# Altium footprint library user_components_lib.PcbLib: 52 footprints (part 3 of 4)
Each footprint in its own frame and in the unit in brackets; x right, y up, seen from the top. Pads: shape width x height; smd on the part's side, far side on the other; paste and mask are expansions set on the pad; w line width, h text height; cw(c..) or ccw(c..) is an arc to the next point about the centre after c.
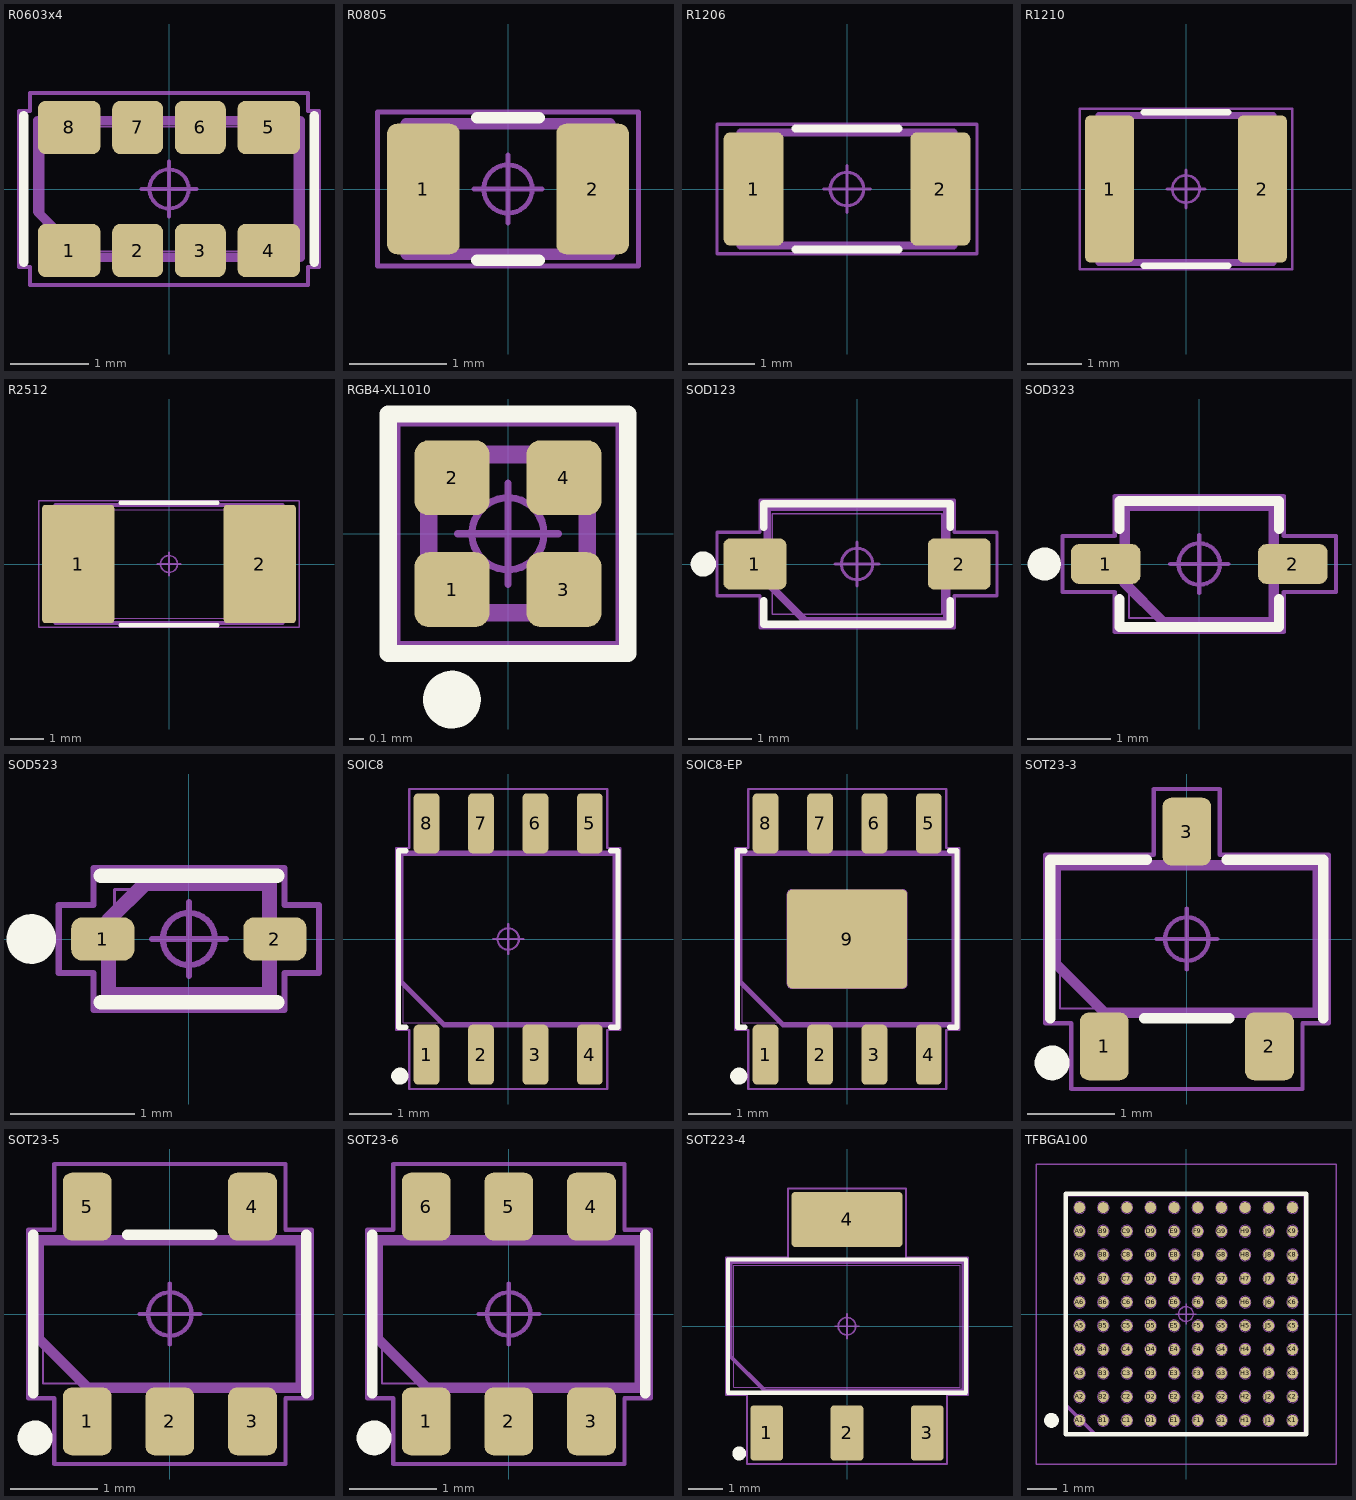
[diagram p2: the footprints below, top view; thin cyan lines are the x and y axes]

## R0603x4 [mm] "Resistor, Chip Array, 2-Sided Convex, 0.80 mm pitch; 8 pin, 3.20 mm L X 1.60 mm W X 0.60 mm H body"
height 0.6
pads (8):
  rrect29% 0.8x0.68 smd: 1(-1.275,-0.786) 4(1.275,-0.786) 5(1.275,0.786) 8(-1.275,0.786)
  rrect31% 0.65x0.68 smd: 2(-0.4,-0.786) 3(0.4,-0.786) 6(0.4,0.786) 7(-0.4,0.786)
Top Overlay:
  lines w0.12: -1.855,-0.935 -1.855,0.935 ; 1.855,-0.935 1.855,0.935
Mechanical 9:
  lines w0.12: -1.675,-0.292 -1.092,-0.875 1.675,-0.875 1.675,0.875 -1.675,0.875 -1.675,-0.292
  text ".Designator" at -2.859,-0.287 h1.27
Mechanical 11:
  text ".Designator" at -2.252,-0.226 h1
Mechanical 15:
  lines w0.05: -1.915,-0.995 -1.915,0.995 -1.775,0.995 -1.775,1.226 1.775,1.226 1.775,0.995 1.915,0.995 1.915,-0.995 1.775,-0.995 1.775,-1.226 -1.775,-1.226 -1.775,-0.995 -1.915,-0.995
Mechanical 17:
  circle w0.05: c0,0 r0.25
  lines w0.05: -0.35,0 0.35,0 ; 0,-0.35 0,0.35
Mechanical 21:
  lines w0.025: -1.6,-0.8 -0.95,-0.8 -0.95,-0.55 -1.6,-0.55 -1.6,-0.8 ; -1.6,-0.8 -1.6,0.8 ; -1.6,-0.8 1.6,-0.8 ; -1.6,0.8 -1.6,0.55 -0.95,0.55 -0.95,0.8 -1.6,0.8 ; -1.6,0.8 1.6,0.8 ; 1.6,-0.8 1.6,-0.55 0.95,-0.55 0.95,-0.8 1.6,-0.8 ; 1.6,-0.8 1.6,0.8 ; 1.6,0.8 0.95,0.8 0.95,0.55 1.6,0.55 1.6,0.8 ; -0.65,-0.8 -0.15,-0.8 -0.15,-0.55 -0.65,-0.55 -0.65,-0.8 ; -0.65,0.55 -0.15,0.55 -0.15,0.8 -0.65,0.8 -0.65,0.55 ; 0.15,-0.8 0.65,-0.8 0.65,-0.55 0.15,-0.55 0.15,-0.8 ; 0.15,0.55 0.65,0.55 0.65,0.8 0.15,0.8 0.15,0.55
3D body "R0603x4.STEP": height 0.6, standoff 0, extent -1.6,-0.85 1.6,0.85

## R0805 [mm]
height 0.6
pads (2):
  rrect27% 0.75x1.35 smd: 1(-0.875,0) 2(0.875,0)
Top Overlay:
  lines w0.12: -0.32,-0.735 0.32,-0.735 ; -0.32,0.735 0.32,0.735
Mechanical 9:
  lines w0.12: -1.05,-0.675 -1.05,0.675 1.05,0.675 1.05,-0.675 -1.05,-0.675
  text ".Designator" at -1.961,-0.197 h0.87
Mechanical 11:
  text ".Designator" at -2.252,-0.226 h1
Mechanical 15:
  lines w0.05: -1.35,-0.795 -1.35,0.795 1.35,0.795 1.35,-0.795 -1.35,-0.795
Mechanical 17:
  circle w0.05: c0,0 r0.25
  lines w0.05: -0.35,0 0.35,0 ; 0,-0.35 0,0.35
Mechanical 21:
  lines w0.025: -1,-0.625 -0.65,-0.625 -0.65,0.625 -1,0.625 ; -1,-0.625 -1,0.625 ; -1,-0.625 -1,0.625 ; -1,-0.625 1,-0.625 ; -1,0.625 1,0.625 ; 1,-0.625 1,0.625 ; 1,-0.625 0.65,-0.625 0.65,0.625 1,0.625 ; 1,-0.625 1,0.625
3D body "R0805.STEP": height 0.6, standoff 0, extent -1,-0.625 1,0.625

## R1206 [mm]
height 0.65
pads (2):
  rrect22% 0.9x1.7 smd: 1(-1.4,0) 2(1.4,0)
Top Overlay:
  lines w0.12: -0.77,-0.91 0.77,-0.91 ; -0.77,0.91 0.77,0.91
Mechanical 9:
  lines w0.12: -1.6,-0.85 -1.6,0.85 1.6,0.85 1.6,-0.85 -1.6,-0.85
  text ".Designator" at -2.747,-0.276 h1.22
Mechanical 11:
  text ".Designator" at -2.252,-0.226 h1
Mechanical 15:
  lines w0.05: -1.95,-0.97 -1.95,0.97 1.95,0.97 1.95,-0.97 -1.95,-0.97
Mechanical 17:
  circle w0.05: c0,0 r0.25
  lines w0.05: -0.35,0 0.35,0 ; 0,-0.35 0,0.35
Mechanical 21:
  lines w0.025: -1.55,-0.8 -1.1,-0.8 -1.1,0.8 -1.55,0.8 ; -1.55,-0.8 -1.55,0.8 ; -1.55,-0.8 -1.55,0.8 ; -1.55,-0.8 1.55,-0.8 ; -1.55,0.8 1.55,0.8 ; 1.55,-0.8 1.55,0.8 ; 1.55,-0.8 1.1,-0.8 1.1,0.8 1.55,0.8 ; 1.55,-0.8 1.55,0.8
3D body "R1206.STEP": height 0.65, standoff 0, extent -1.55,-0.8 1.55,0.8

## R1210 [mm]
height 0.65
pads (2):
  rrect22% 0.9x2.7 smd: 1(-1.4,0) 2(1.4,0)
Top Overlay:
  lines w0.12: -0.77,-1.41 0.77,-1.41 ; -0.77,1.41 0.77,1.41
Mechanical 9:
  lines w0.12: -1.6,-1.35 1.6,-1.35 1.6,1.35 -1.6,1.35 -1.6,-1.35
  text ".Designator" at -4.511,-0.453 h2
Mechanical 11:
  text ".Designator" at -2.252,-0.226 h1
Mechanical 15:
  lines w0.05: -1.95,-1.47 1.95,-1.47 1.95,1.47 -1.95,1.47 -1.95,-1.47
Mechanical 17:
  circle w0.05: c0,0 r0.25
  lines w0.05: -0.35,0 0.35,0 ; 0,-0.35 0,0.35
Mechanical 21:
  lines w0.025: -1.55,-1.3 1.55,-1.3 ; -1.55,-1.3 -1.55,1.3 ; -1.55,-1.3 -1.55,1.3 ; -1.55,-1.3 -1.1,-1.3 -1.1,1.3 -1.55,1.3 ; -1.55,1.3 1.55,1.3 ; 1.55,-1.3 1.55,1.3 ; 1.55,-1.3 1.1,-1.3 1.1,1.3 1.55,1.3 ; 1.55,-1.3 1.55,1.3
3D body "R1210.STEP": height 0.65, standoff 0, extent -1.55,-1.3 1.55,1.3

## R2512 [mm]
height 1.2
pads (2):
  rrect9% 2.13x3.5 smd: 1(-2.683,0) 2(2.683,0)
Top Overlay:
  lines w0.12: -1.436,-1.81 1.436,-1.81 ; -1.436,1.81 1.436,1.81
Mechanical 9:
  lines w0.12: -3.35,-1.75 3.35,-1.75 3.35,1.75 -3.35,1.75 -3.35,-1.75
  text ".Designator" at -4.511,-0.453 h2
Mechanical 11:
  text ".Designator" at -2.252,-0.226 h1
Mechanical 15:
  lines w0.05: -3.848,-1.87 3.848,-1.87 3.848,1.87 -3.848,1.87 -3.848,-1.87
Mechanical 17:
  circle w0.05: c0,0 r0.25
  lines w0.05: -0.35,0 0.35,0 ; 0,-0.35 0,0.35
Mechanical 21:
  lines w0.025: -3.2,-1.6 3.2,-1.6 ; -3.2,-1.6 -3.2,1.6 ; -3.2,-1.6 -3.2,1.6 ; -3.2,-1.6 -2,-1.6 -2,1.6 -3.2,1.6 ; -3.2,1.6 3.2,1.6 ; 3.2,-1.6 3.2,1.6 ; 3.2,-1.6 2,-1.6 2,1.6 3.2,1.6 ; 3.2,-1.6 3.2,1.6
3D body "R2512.STEP": height 1.2, standoff 0, extent -3.2,-1.6 3.2,1.6

## RGB4-XL1010 [mm] "Corner Concave; 1.00 mm L X 1.00 mm W X 0.90 mm H body"
height 0.9
pads (4):
  rrect38% 0.52x0.52 smd: 1(-0.388,-0.388) 2(-0.388,0.388) 3(0.388,-0.388) 4(0.388,0.388)
Top Overlay:
  circle w0.2: c-0.388,-1.15 r0.1
  lines w0.12: -0.83,-0.83 0.83,-0.83 0.83,0.83 -0.83,0.83 -0.83,-0.83
Mechanical 9:
  lines w0.12: -0.55,-0.183 -0.55,0.55 0.55,0.55 0.55,-0.55 -0.183,-0.55 -0.55,-0.183
  text ".Designator" at -1.398,-0.14 h0.62
Mechanical 11:
  text ".Designator" at -2.252,-0.226 h1
Mechanical 15:
  lines w0.05: -0.77,-0.77 0.77,-0.77 0.77,0.77 -0.77,0.77 -0.77,-0.77
Mechanical 17:
  circle w0.05: c0,0 r0.25
  lines w0.05: -0.35,0 0.35,0 ; 0,-0.35 0,0.35
Mechanical 21:
  lines w0.025: -0.5,-0.5 0.5,-0.5 ; -0.5,-0.5 -0.5,0.5 ; -0.5,-0.5 -0.5,-0.175 -0.175,-0.175 -0.175,-0.5 -0.5,-0.5 ; -0.5,0.5 0.5,0.5 ; -0.5,0.5 -0.175,0.5 -0.175,0.175 -0.5,0.175 -0.5,0.5 ; 0.5,-0.5 0.5,0.5 ; 0.5,-0.5 0.175,-0.5 0.175,-0.175 0.5,-0.175 0.5,-0.5 ; 0.5,0.5 0.5,0.175 0.175,0.175 0.175,0.5 0.5,0.5
3D body "RGB4-XL1010.STEP": height 0.81, standoff 0, extent -0.5,-0.5 0.5,0.5

## SOD123 [mm] "Diode, Small Outline Diode (SOD); 2.70 mm L X 1.60 mm W X 1.35 mm H body"
height 1.35
pads (2):
  rrect25% 1x0.81 smd: 1(-1.625,0) 2(1.625,0)
Top Overlay:
  circle w0.2: c-2.445,0 r0.1
  lines w0.12: -1.485,-0.585 -1.485,-0.96 1.485,-0.96 1.485,-0.585 ; -1.485,0.585 -1.485,0.96 1.485,0.96 1.485,0.585
Mechanical 9:
  lines w0.12: -1.425,-0.3 -1.425,0.9 1.425,0.9 1.425,-0.9 -0.825,-0.9 -1.425,-0.3
  text ".Designator" at -2.976,-0.299 h1.32
Mechanical 11:
  text ".Designator" at -2.252,-0.226 h1
Mechanical 15:
  lines w0.05: -2.225,-0.505 -2.225,0.505 -1.545,0.505 -1.545,1.02 1.545,1.02 1.545,0.505 2.225,0.505 2.225,-0.505 1.545,-0.505 1.545,-1.02 -1.545,-1.02 -1.545,-0.505 -2.225,-0.505
Mechanical 17:
  circle w0.05: c0,0 r0.25
  lines w0.05: -0.35,0 0.35,0 ; 0,-0.35 0,0.35
Mechanical 21:
  lines w0.025: -1.85,-0.305 -1.55,-0.305 -1.55,0.305 -1.85,0.305 -1.85,-0.305 ; -1.35,-0.8 -1.35,0.8 1.35,0.8 1.35,-0.8 -1.35,-0.8 ; 1.55,-0.305 1.55,0.305 1.85,0.305 1.85,-0.305 1.55,-0.305
3D body "SOD123.STEP": height 1.35, standoff 0, extent -1.85,-0.8 1.85,0.8

## SOD323 [mm] "Diode, Small Outline Diode (SOD); 1.70 mm L X 1.30 mm W X 1.10 mm H body"
height 1.1
pads (2):
  rrect42% 0.84x0.48 smd: 1(-1.13,0) 2(1.13,0)
Top Overlay:
  circle w0.2: c-1.87,0 r0.1
  lines w0.12: -0.96,-0.42 -0.96,-0.76 0.96,-0.76 0.96,-0.42 ; -0.96,0.42 -0.96,0.76 0.96,0.76 0.96,0.42
Mechanical 9:
  lines w0.12: -0.9,-0.233 -0.9,0.7 0.9,0.7 0.9,-0.7 -0.433,-0.7 -0.9,-0.233
  text ".Designator" at -2.073,-0.208 h0.92
Mechanical 11:
  text ".Designator" at -2.252,-0.226 h1
Mechanical 15:
  lines w0.05: -1.65,-0.34 -1.65,0.34 -1.02,0.34 -1.02,0.82 1.02,0.82 1.02,0.34 1.65,0.34 1.65,-0.34 1.02,-0.34 1.02,-0.82 -1.02,-0.82 -1.02,-0.34 -1.65,-0.34
Mechanical 17:
  circle w0.05: c0,0 r0.25
  lines w0.05: -0.35,0 0.35,0 ; 0,-0.35 0,0.35
Mechanical 21:
  lines w0.025: -1.275,-0.162 -0.95,-0.162 -0.95,0.162 -1.275,0.162 -1.275,-0.162 ; -0.85,-0.65 -0.85,0.65 0.85,0.65 0.85,-0.65 -0.85,-0.65 ; 0.951,-0.162 0.951,0.162 1.275,0.162 1.275,-0.162 0.951,-0.162
3D body "SOD323.STEP": height 1.1, standoff 0, extent -1.275,-0.65 1.275,0.65

## SOD523 [mm] "Diode, Small Outline Diode Flat Lead (SODFL); 1.20 mm L X 0.80 mm W X 0.70 mm H body"
height 0.7
pads (2):
  rrect51% 0.51x0.35 smd: 1(-0.694,0) 2(0.694,0)
Top Overlay:
  circle w0.2: c-1.27,0 r0.1
  lines w0.12: -0.71,-0.51 0.71,-0.51 ; -0.71,0.51 0.71,0.51
Mechanical 9:
  lines w0.12: -0.65,-0.45 -0.65,0.15 -0.35,0.45 0.65,0.45 0.65,-0.45 -0.65,-0.45
  text ".Designator" at -1.126,-0.113 h0.5
Mechanical 11:
  text ".Designator" at -2.252,-0.226 h1
Mechanical 15:
  lines w0.05: -1.049,-0.275 -1.049,0.275 -0.77,0.275 -0.77,0.57 0.77,0.57 0.77,0.275 1.049,0.275 1.049,-0.275 0.77,-0.275 0.77,-0.57 -0.77,-0.57 -0.77,-0.275 -1.049,-0.275
Mechanical 17:
  circle w0.05: c0,0 r0.21
  lines w0.05: -0.298,0 0.298,0 ; 0,-0.298 0,0.298
Mechanical 21:
  lines w0.025: -0.8,-0.15 -0.5,-0.15 -0.5,0.15 -0.8,0.15 -0.8,-0.15 ; -0.6,-0.4 -0.6,0.4 0.6,0.4 0.6,-0.4 -0.6,-0.4 ; 0.5,-0.15 0.5,0.15 0.8,0.15 0.8,-0.15 0.5,-0.15
3D body "SOD523.STEP": height 0.7, standoff 0, extent -0.8,-0.4 0.8,0.4

## SOIC8 [mm] "Small Outline Pkg (SOP), 1.27 mm pitch; 8 pin, 4.90 mm L X 3.90 mm W X 1.75 mm H body"
height 1.75
pads (8):
  rrect33% 0.6x1.4 smd: 1(-1.905,-2.7) 2(-0.635,-2.7) 3(0.635,-2.7) 4(1.905,-2.7) 5(1.905,2.7) 6(0.635,2.7) 7(-0.635,2.7) 8(-1.905,2.7)
Top Overlay:
  circle w0.2: c-2.53,-3.2 r0.1
  lines w0.12: -2.39,-2.06 -2.56,-2.06 -2.56,2.06 -2.39,2.06 ; 2.39,-2.06 2.56,-2.06 2.56,2.06 2.39,2.06
Mechanical 9:
  lines w0.12: -2.5,-1 -1.5,-2 2.5,-2 2.5,2 -2.5,2 -2.5,-1
  text ".Designator" at -4.511,-0.453 h2
Mechanical 11:
  text ".Designator" at -2.252,-0.226 h1
Mechanical 15:
  lines w0.05: -2.62,-2.12 -2.62,2.12 -2.31,2.12 -2.31,3.5 2.31,3.5 2.31,2.12 2.62,2.12 2.62,-2.12 2.31,-2.12 2.31,-3.5 -2.31,-3.5 -2.31,-2.12 -2.62,-2.12
Mechanical 17:
  circle w0.05: c0,0 r0.25
  lines w0.05: -0.35,0 0.35,0 ; 0,-0.35 0,0.35
Mechanical 21:
  lines w0.025: -2.45,-1.95 -2.45,1.95 2.45,1.95 2.45,-1.95 -2.45,-1.95 ; -2.105,-3 -1.705,-3 -1.705,-2.2 -2.105,-2.2 -2.105,-3 ; -2.105,2.2 -1.705,2.2 -1.705,3 -2.105,3 -2.105,2.2 ; -0.835,-3 -0.435,-3 -0.435,-2.2 -0.835,-2.2 -0.835,-3 ; -0.835,2.2 -0.435,2.2 -0.435,3 -0.835,3 -0.835,2.2 ; 0.435,-3 0.835,-3 0.835,-2.2 0.435,-2.2 0.435,-3 ; 0.435,2.2 0.835,2.2 0.835,3 0.435,3 0.435,2.2 ; 1.705,-3 2.105,-3 2.105,-2.2 1.705,-2.2 1.705,-3 ; 1.705,2.2 2.105,2.2 2.105,3 1.705,3 1.705,2.2
3D body "SOIC8.STEP": height 1.75, standoff 0, extent -2.45,-3 2.45,3

## SOIC8-EP [mm] "Small Outline Pkg (SOP) with tab, 1.27 mm pitch; 9 pin, 4.90 mm L X 3.90 mm W X 1.70 mm H body"
height 1.7
pads (9):
  rrect33% 0.6x1.4 smd: 1(-1.905,-2.7) 2(-0.635,-2.7) 3(0.635,-2.7) 4(1.905,-2.7) 5(1.905,2.7) 6(0.635,2.7) 7(-0.635,2.7) 8(-1.905,2.7)
  rrect9% 2.8x2.3 smd paste-2.8: 9(0,0)
Top Overlay:
  circle w0.2: c-2.53,-3.2 r0.1
  lines w0.12: -2.39,-2.06 -2.56,-2.06 -2.56,2.06 -2.39,2.06 ; 2.39,-2.06 2.56,-2.06 2.56,2.06 2.39,2.06
Top Paste:
  region: 1.258,-1.008 0.142,-1.008 0.142,-0.142 1.258,-0.142
  region: 1.258,0.142 0.142,0.142 0.142,1.008 1.258,1.008
  region: -0.142,-1.008 -1.258,-1.008 -1.258,-0.142 -0.142,-0.142
  region: -0.142,0.142 -1.258,0.142 -1.258,1.008 -0.142,1.008
Mechanical 9:
  lines w0.12: -2.5,-1 -1.5,-2 2.5,-2 2.5,2 -2.5,2 -2.5,-1
  text ".Designator" at -4.511,-0.453 h2
Mechanical 11:
  text ".Designator" at -2.252,-0.226 h1
Mechanical 15:
  lines w0.05: -2.62,-2.12 -2.62,2.12 -2.31,2.12 -2.31,3.5 2.31,3.5 2.31,2.12 2.62,2.12 2.62,-2.12 2.31,-2.12 2.31,-3.5 -2.31,-3.5 -2.31,-2.12 -2.62,-2.12
Mechanical 17:
  circle w0.05: c0,0 r0.25
  lines w0.05: -0.35,0 0.35,0 ; 0,-0.35 0,0.35
Mechanical 21:
  lines w0.025: -2.45,-1.95 -2.45,1.95 2.45,1.95 2.45,-1.95 -2.45,-1.95 ; -2.11,-3 -1.7,-3 -1.7,-2.165 -2.11,-2.165 -2.11,-3 ; -2.11,2.165 -1.7,2.165 -1.7,3 -2.11,3 -2.11,2.165 ; -1.4,-1.05 ccw(c-1.3,-1.05) -1.3,-1.15 1.3,-1.15 ccw(c1.3,-1.05) 1.4,-1.05 1.4,1.05 ccw(c1.3,1.05) 1.3,1.15 -1.3,1.15 ccw(c-1.3,1.05) -1.4,1.05 -1.4,-1.05 ; -0.84,-3 -0.43,-3 -0.43,-2.165 -0.84,-2.165 -0.84,-3 ; -0.84,2.165 -0.43,2.165 -0.43,3 -0.84,3 -0.84,2.165 ; 0.43,-3 0.84,-3 0.84,-2.165 0.43,-2.165 0.43,-3 ; 0.43,2.165 0.84,2.165 0.84,3 0.43,3 0.43,2.165 ; 1.7,-3 2.11,-3 2.11,-2.165 1.7,-2.165 1.7,-3 ; 1.7,2.165 2.11,2.165 2.11,3 1.7,3 1.7,2.165
3D body "SOIC8-EP.STEP": height 1.7, standoff 0, extent -2.45,-3 2.45,3

## SOT23-3 [mm] "Small Outline Transistor (SOT23), 0.95 mm pitch; 3 pin, 2.92 mm L X 1.60 mm W X 1.25 mm H body"
height 1.25
pads (3):
  rrect36% 0.56x0.78 smd: 1(-0.95,-1.235) 2(0.95,-1.235) 3(0,1.235)
Top Overlay:
  circle w0.2: c-1.55,-1.425 r0.1
  lines w0.12: -1.57,-0.91 -1.57,0.91 -0.46,0.91 ; -0.49,-0.91 0.49,-0.91 ; 0.46,0.91 1.57,0.91 1.57,-0.91
Mechanical 9:
  lines w0.12: -1.51,-0.283 -0.943,-0.85 1.51,-0.85 1.51,0.85 -1.51,0.85 -1.51,-0.283
  text ".Designator" at -2.747,-0.276 h1.22
Mechanical 11:
  text ".Designator" at -2.252,-0.226 h1
Mechanical 15:
  lines w0.05: -1.63,-0.97 -1.63,0.97 -0.38,0.97 -0.38,1.725 0.38,1.725 0.38,0.97 1.63,0.97 1.63,-0.97 1.33,-0.97 1.33,-1.725 -1.33,-1.725 -1.33,-0.97 -1.63,-0.97
Mechanical 17:
  circle w0.05: c0,0 r0.25
  lines w0.05: -0.35,0 0.35,0 ; 0,-0.35 0,0.35
Mechanical 21:
  lines w0.025: -1.46,-0.8 -1.46,0.8 1.46,0.8 1.46,-0.8 -1.46,-0.8 ; -1.15,-1.4 -0.75,-1.4 -0.75,-0.95 -1.15,-0.95 -1.15,-1.4 ; -0.2,0.95 0.2,0.95 0.2,1.4 -0.2,1.4 -0.2,0.95 ; 0.75,-1.4 1.15,-1.4 1.15,-0.95 0.75,-0.95 0.75,-1.4
3D body "SOT23-3.STEP": height 1.25, standoff 0, extent -1.46,-1.4 1.46,1.4

## SOT23-5 [mm] "Small Outline Transistor (SOT23), 0.95 mm pitch; 5 pin, 2.92 mm L X 1.60 mm W X 1.25 mm H body"
height 1.25
pads (5):
  rrect36% 0.56x0.78 smd: 1(-0.95,-1.235) 2(0,-1.235) 3(0.95,-1.235) 4(0.95,1.235) 5(-0.95,1.235)
Top Overlay:
  circle w0.2: c-1.55,-1.425 r0.1
  lines w0.12: -1.57,-0.91 -1.57,0.91 ; -0.49,0.91 0.49,0.91 ; 1.57,-0.91 1.57,0.91
Mechanical 9:
  lines w0.12: -1.51,-0.283 -0.943,-0.85 1.51,-0.85 1.51,0.85 -1.51,0.85 -1.51,-0.283
  text ".Designator" at -2.747,-0.276 h1.22
Mechanical 11:
  text ".Designator" at -2.252,-0.226 h1
Mechanical 15:
  lines w0.05: -1.63,-0.97 -1.63,0.97 -1.33,0.97 -1.33,1.725 1.33,1.725 1.33,0.97 1.63,0.97 1.63,-0.97 1.33,-0.97 1.33,-1.725 -1.33,-1.725 -1.33,-0.97 -1.63,-0.97
Mechanical 17:
  circle w0.05: c0,0 r0.25
  lines w0.05: -0.35,0 0.35,0 ; 0,-0.35 0,0.35
Mechanical 21:
  lines w0.025: -1.46,-0.8 -1.46,0.8 1.46,0.8 1.46,-0.8 -1.46,-0.8 ; -1.15,-1.4 -0.75,-1.4 -0.75,-0.95 -1.15,-0.95 -1.15,-1.4 ; -1.15,0.95 -0.75,0.95 -0.75,1.4 -1.15,1.4 -1.15,0.95 ; -0.2,-1.4 0.2,-1.4 0.2,-0.95 -0.2,-0.95 -0.2,-1.4 ; 0.75,-1.4 1.15,-1.4 1.15,-0.95 0.75,-0.95 0.75,-1.4 ; 0.75,0.95 1.15,0.95 1.15,1.4 0.75,1.4 0.75,0.95
3D body "SOT23-5.STEP": height 1.25, standoff 0, extent -1.46,-1.4 1.46,1.4

## SOT23-6 [mm] "Small Outline Transistor (SOT23), 0.95 mm pitch; 6 pin, 2.92 mm L X 1.60 mm W X 1.25 mm H body"
height 1.25
pads (6):
  rrect36% 0.56x0.78 smd: 1(-0.95,-1.235) 2(0,-1.235) 3(0.95,-1.235) 4(0.95,1.235) 5(0,1.235) 6(-0.95,1.235)
Top Overlay:
  circle w0.2: c-1.55,-1.425 r0.1
  lines w0.12: -1.57,-0.91 -1.57,0.91 ; 1.57,-0.91 1.57,0.91
Mechanical 9:
  lines w0.12: -1.51,-0.283 -0.943,-0.85 1.51,-0.85 1.51,0.85 -1.51,0.85 -1.51,-0.283
  text ".Designator" at -2.747,-0.276 h1.22
Mechanical 11:
  text ".Designator" at -2.252,-0.226 h1
Mechanical 15:
  lines w0.05: -1.63,-0.97 -1.63,0.97 -1.33,0.97 -1.33,1.725 1.33,1.725 1.33,0.97 1.63,0.97 1.63,-0.97 1.33,-0.97 1.33,-1.725 -1.33,-1.725 -1.33,-0.97 -1.63,-0.97
Mechanical 17:
  circle w0.05: c0,0 r0.25
  lines w0.05: -0.35,0 0.35,0 ; 0,-0.35 0,0.35
Mechanical 21:
  lines w0.025: -1.46,-0.8 -1.46,0.8 1.46,0.8 1.46,-0.8 -1.46,-0.8 ; -1.15,-1.4 -0.75,-1.4 -0.75,-0.95 -1.15,-0.95 -1.15,-1.4 ; -1.15,0.95 -0.75,0.95 -0.75,1.4 -1.15,1.4 -1.15,0.95 ; -0.2,-1.4 0.2,-1.4 0.2,-0.95 -0.2,-0.95 -0.2,-1.4 ; -0.2,0.95 0.2,0.95 0.2,1.4 -0.2,1.4 -0.2,0.95 ; 0.75,-1.4 1.15,-1.4 1.15,-0.95 0.75,-0.95 0.75,-1.4 ; 0.75,0.95 1.15,0.95 1.15,1.4 0.75,1.4 0.75,0.95
3D body "SOT23-6.STEP": height 1.25, standoff 0, extent -1.46,-1.4 1.46,1.4

## SOT223-4 [mm] "Small Outline Transistor (SOT223), 2.30 mm pitch; 4 pin, 6.50 mm L X 3.50 mm W X 1.80 mm H body"
height 1.8
pads (4):
  rrect21% 0.94x1.58 smd: 1(-2.3,-3.062) 2(0,-3.062) 3(2.3,-3.062)
  rrect13% 3.18x1.58 smd: 4(0,3.062)
Top Overlay:
  circle w0.2: c-3.09,-3.65 r0.1
  lines w0.12: -3.415,-1.91 -3.415,1.91 3.415,1.91 3.415,-1.91 -3.415,-1.91
Mechanical 9:
  lines w0.12: -3.35,-0.85 -2.35,-1.85 3.35,-1.85 3.35,1.85 -3.35,1.85 -3.35,-0.85
  text ".Designator" at -4.511,-0.453 h2
Mechanical 11:
  text ".Designator" at -2.252,-0.226 h1
Mechanical 15:
  lines w0.05: -3.475,-1.97 -3.475,1.97 -1.69,1.97 -1.69,3.952 1.69,3.952 1.69,1.97 3.475,1.97 3.475,-1.97 2.87,-1.97 2.87,-3.952 -2.87,-3.952 -2.87,-1.97 -3.475,-1.97
Mechanical 17:
  circle w0.05: c0,0 r0.25
  lines w0.05: -0.35,0 0.35,0 ; 0,-0.35 0,0.35
Mechanical 21:
  lines w0.025: -3.25,-1.75 -3.25,1.75 3.25,1.75 3.25,-1.75 -3.25,-1.75 ; -2.675,-3.501 -1.925,-3.501 -1.925,-2.725 -2.675,-2.725 -2.675,-3.501 ; -1.5,2.725 1.5,2.725 1.5,3.501 -1.5,3.501 -1.5,2.725 ; -0.375,-3.501 0.375,-3.501 0.375,-2.725 -0.375,-2.725 -0.375,-3.501 ; 1.925,-3.501 2.675,-3.501 2.675,-2.725 1.925,-2.725 1.925,-3.501
3D body "SOT223-4.STEP": height 1.8, standoff 0, extent -3.25,-3.5 3.25,3.5

## TFBGA100 [mm] "Ball Grid Array (BGA), 0.80 mm pitch, square; 100 pin, 8.00 mm L X 8.00 mm W X 1.10 mm H body"
height 1.1
pads (100):
  round 0.37 smd: A1(-3.6,-3.6) A2(-3.6,-2.8) A3(-3.6,-2) A4(-3.6,-1.2) A5(-3.6,-0.4) A6(-3.6,0.4) A7(-3.6,1.2) A8(-3.6,2) A9(-3.6,2.8) A10(-3.6,3.6) B1(-2.8,-3.6) B2(-2.8,-2.8) B3(-2.8,-2) B4(-2.8,-1.2) B5(-2.8,-0.4) B6(-2.8,0.4) B7(-2.8,1.2) B8(-2.8,2) B9(-2.8,2.8) B10(-2.8,3.6) C1(-2,-3.6) C2(-2,-2.8) C3(-2,-2) C4(-2,-1.2) C5(-2,-0.4) C6(-2,0.4) C7(-2,1.2) C8(-2,2) C9(-2,2.8) C10(-2,3.6) D1(-1.2,-3.6) D2(-1.2,-2.8) D3(-1.2,-2) D4(-1.2,-1.2) D5(-1.2,-0.4) D6(-1.2,0.4) D7(-1.2,1.2) D8(-1.2,2) D9(-1.2,2.8) D10(-1.2,3.6) E1(-0.4,-3.6) E2(-0.4,-2.8) E3(-0.4,-2) E4(-0.4,-1.2) E5(-0.4,-0.4) E6(-0.4,0.4) E7(-0.4,1.2) E8(-0.4,2) E9(-0.4,2.8) E10(-0.4,3.6) F1(0.4,-3.6) F2(0.4,-2.8) F3(0.4,-2) F4(0.4,-1.2) F5(0.4,-0.4) F6(0.4,0.4) F7(0.4,1.2) F8(0.4,2) F9(0.4,2.8) F10(0.4,3.6) G1(1.2,-3.6) G2(1.2,-2.8) G3(1.2,-2) G4(1.2,-1.2) G5(1.2,-0.4) G6(1.2,0.4) G7(1.2,1.2) G8(1.2,2) G9(1.2,2.8) G10(1.2,3.6) H1(2,-3.6) H2(2,-2.8) H3(2,-2) H4(2,-1.2) H5(2,-0.4) H6(2,0.4) H7(2,1.2) H8(2,2) H9(2,2.8) H10(2,3.6) J1(2.8,-3.6) J2(2.8,-2.8) J3(2.8,-2) J4(2.8,-1.2) J5(2.8,-0.4) J6(2.8,0.4) J7(2.8,1.2) J8(2.8,2) J9(2.8,2.8) J10(2.8,3.6) K1(3.6,-3.6) K2(3.6,-2.8) K3(3.6,-2) K4(3.6,-1.2) K5(3.6,-0.4) K6(3.6,0.4) K7(3.6,1.2) K8(3.6,2) K9(3.6,2.8) K10(3.6,3.6)
Top Overlay:
  circle w0.25: c-4.55,-3.6 r0.125
  lines w0.15: -4.075,-4.075 -4.075,4.075 4.075,4.075 4.075,-4.075 -4.075,-4.075
Mechanical 9:
  lines w0.12: -4.075,-3.075 -3.075,-4.075 4.075,-4.075 4.075,4.075 -4.075,4.075 -4.075,-3.075
  text ".Designator" at -4.511,-0.453 h2
Mechanical 11:
  text ".Designator" at -2.704,-0.271 h1.2
Mechanical 15:
  lines w0.05: -5.075,-5.075 -5.075,5.075 5.075,5.075 5.075,-5.075 -5.075,-5.075
Mechanical 17:
  circle w0.05: c0,0 r0.25
  lines w0.05: -0.35,0 0.35,0 ; 0,-0.35 0,0.35
Mechanical 21:
  circle w0.025: c-3.6,-3.6 r0.2
  circle w0.025: c-3.6,-2.8 r0.2
  circle w0.025: c-3.6,-2 r0.2
  circle w0.025: c-3.6,-1.2 r0.2
  circle w0.025: c-3.6,-0.4 r0.2
  circle w0.025: c-3.6,0.4 r0.2
  circle w0.025: c-3.6,1.2 r0.2
  circle w0.025: c-3.6,2 r0.2
  circle w0.025: c-3.6,2.8 r0.2
  circle w0.025: c-3.6,3.6 r0.2
  circle w0.025: c-2.8,-3.6 r0.2
  circle w0.025: c-2.8,-2.8 r0.2
  circle w0.025: c-2.8,-2 r0.2
  circle w0.025: c-2.8,-1.2 r0.2
  circle w0.025: c-2.8,-0.4 r0.2
  circle w0.025: c-2.8,0.4 r0.2
  circle w0.025: c-2.8,1.2 r0.2
  circle w0.025: c-2.8,2 r0.2
  circle w0.025: c-2.8,2.8 r0.2
  circle w0.025: c-2.8,3.6 r0.2
  circle w0.025: c-2,-3.6 r0.2
  circle w0.025: c-2,-2.8 r0.2
  circle w0.025: c-2,-2 r0.2
  circle w0.025: c-2,-1.2 r0.2
  circle w0.025: c-2,-0.4 r0.2
  circle w0.025: c-2,0.4 r0.2
  circle w0.025: c-2,1.2 r0.2
  circle w0.025: c-2,2 r0.2
  circle w0.025: c-2,2.8 r0.2
  circle w0.025: c-2,3.6 r0.2
  circle w0.025: c-1.2,-3.6 r0.2
  circle w0.025: c-1.2,-2.8 r0.2
  circle w0.025: c-1.2,-2 r0.2
  circle w0.025: c-1.2,-1.2 r0.2
  circle w0.025: c-1.2,-0.4 r0.2
  circle w0.025: c-1.2,0.4 r0.2
  circle w0.025: c-1.2,1.2 r0.2
  circle w0.025: c-1.2,2 r0.2
  circle w0.025: c-1.2,2.8 r0.2
  circle w0.025: c-1.2,3.6 r0.2
  circle w0.025: c-0.4,-3.6 r0.2
  circle w0.025: c-0.4,-2.8 r0.2
  circle w0.025: c-0.4,-2 r0.2
  circle w0.025: c-0.4,-1.2 r0.2
  circle w0.025: c-0.4,-0.4 r0.2
  circle w0.025: c-0.4,0.4 r0.2
  circle w0.025: c-0.4,1.2 r0.2
  circle w0.025: c-0.4,2 r0.2
  circle w0.025: c-0.4,2.8 r0.2
  circle w0.025: c-0.4,3.6 r0.2
  circle w0.025: c0.4,-3.6 r0.2
  circle w0.025: c0.4,-2.8 r0.2
  circle w0.025: c0.4,-2 r0.2
  circle w0.025: c0.4,-1.2 r0.2
  circle w0.025: c0.4,-0.4 r0.2
  circle w0.025: c0.4,0.4 r0.2
  circle w0.025: c0.4,1.2 r0.2
  circle w0.025: c0.4,2 r0.2
  circle w0.025: c0.4,2.8 r0.2
  circle w0.025: c0.4,3.6 r0.2
  circle w0.025: c1.2,-3.6 r0.2
  circle w0.025: c1.2,-2.8 r0.2
  circle w0.025: c1.2,-2 r0.2
  circle w0.025: c1.2,-1.2 r0.2
  circle w0.025: c1.2,-0.4 r0.2
  circle w0.025: c1.2,0.4 r0.2
  circle w0.025: c1.2,1.2 r0.2
  circle w0.025: c1.2,2 r0.2
  circle w0.025: c1.2,2.8 r0.2
  circle w0.025: c1.2,3.6 r0.2
  circle w0.025: c2,-3.6 r0.2
  circle w0.025: c2,-2.8 r0.2
  circle w0.025: c2,-2 r0.2
  circle w0.025: c2,-1.2 r0.2
  circle w0.025: c2,-0.4 r0.2
  circle w0.025: c2,0.4 r0.2
  circle w0.025: c2,1.2 r0.2
  circle w0.025: c2,2 r0.2
  circle w0.025: c2,2.8 r0.2
  circle w0.025: c2,3.6 r0.2
  circle w0.025: c2.8,-3.6 r0.2
  circle w0.025: c2.8,-2.8 r0.2
  circle w0.025: c2.8,-2 r0.2
  circle w0.025: c2.8,-1.2 r0.2
  circle w0.025: c2.8,-0.4 r0.2
  circle w0.025: c2.8,0.4 r0.2
  circle w0.025: c2.8,1.2 r0.2
  circle w0.025: c2.8,2 r0.2
  circle w0.025: c2.8,2.8 r0.2
  circle w0.025: c2.8,3.6 r0.2
  circle w0.025: c3.6,-3.6 r0.2
  circle w0.025: c3.6,-2.8 r0.2
  circle w0.025: c3.6,-2 r0.2
  circle w0.025: c3.6,-1.2 r0.2
  circle w0.025: c3.6,-0.4 r0.2
  circle w0.025: c3.6,0.4 r0.2
  circle w0.025: c3.6,1.2 r0.2
  circle w0.025: c3.6,2 r0.2
  circle w0.025: c3.6,2.8 r0.2
  circle w0.025: c3.6,3.6 r0.2
  lines w0.025: -4,-4 -4,4 4,4 4,-4 -4,-4
3D body "TFBGA100.STEP": height 1.1, standoff 0, extent -4,-4 4,4